# Altium integrated library My_Library.IntLib: 30 symbols
Pins are listed as number, name and electrical type; pins without a type are passive.

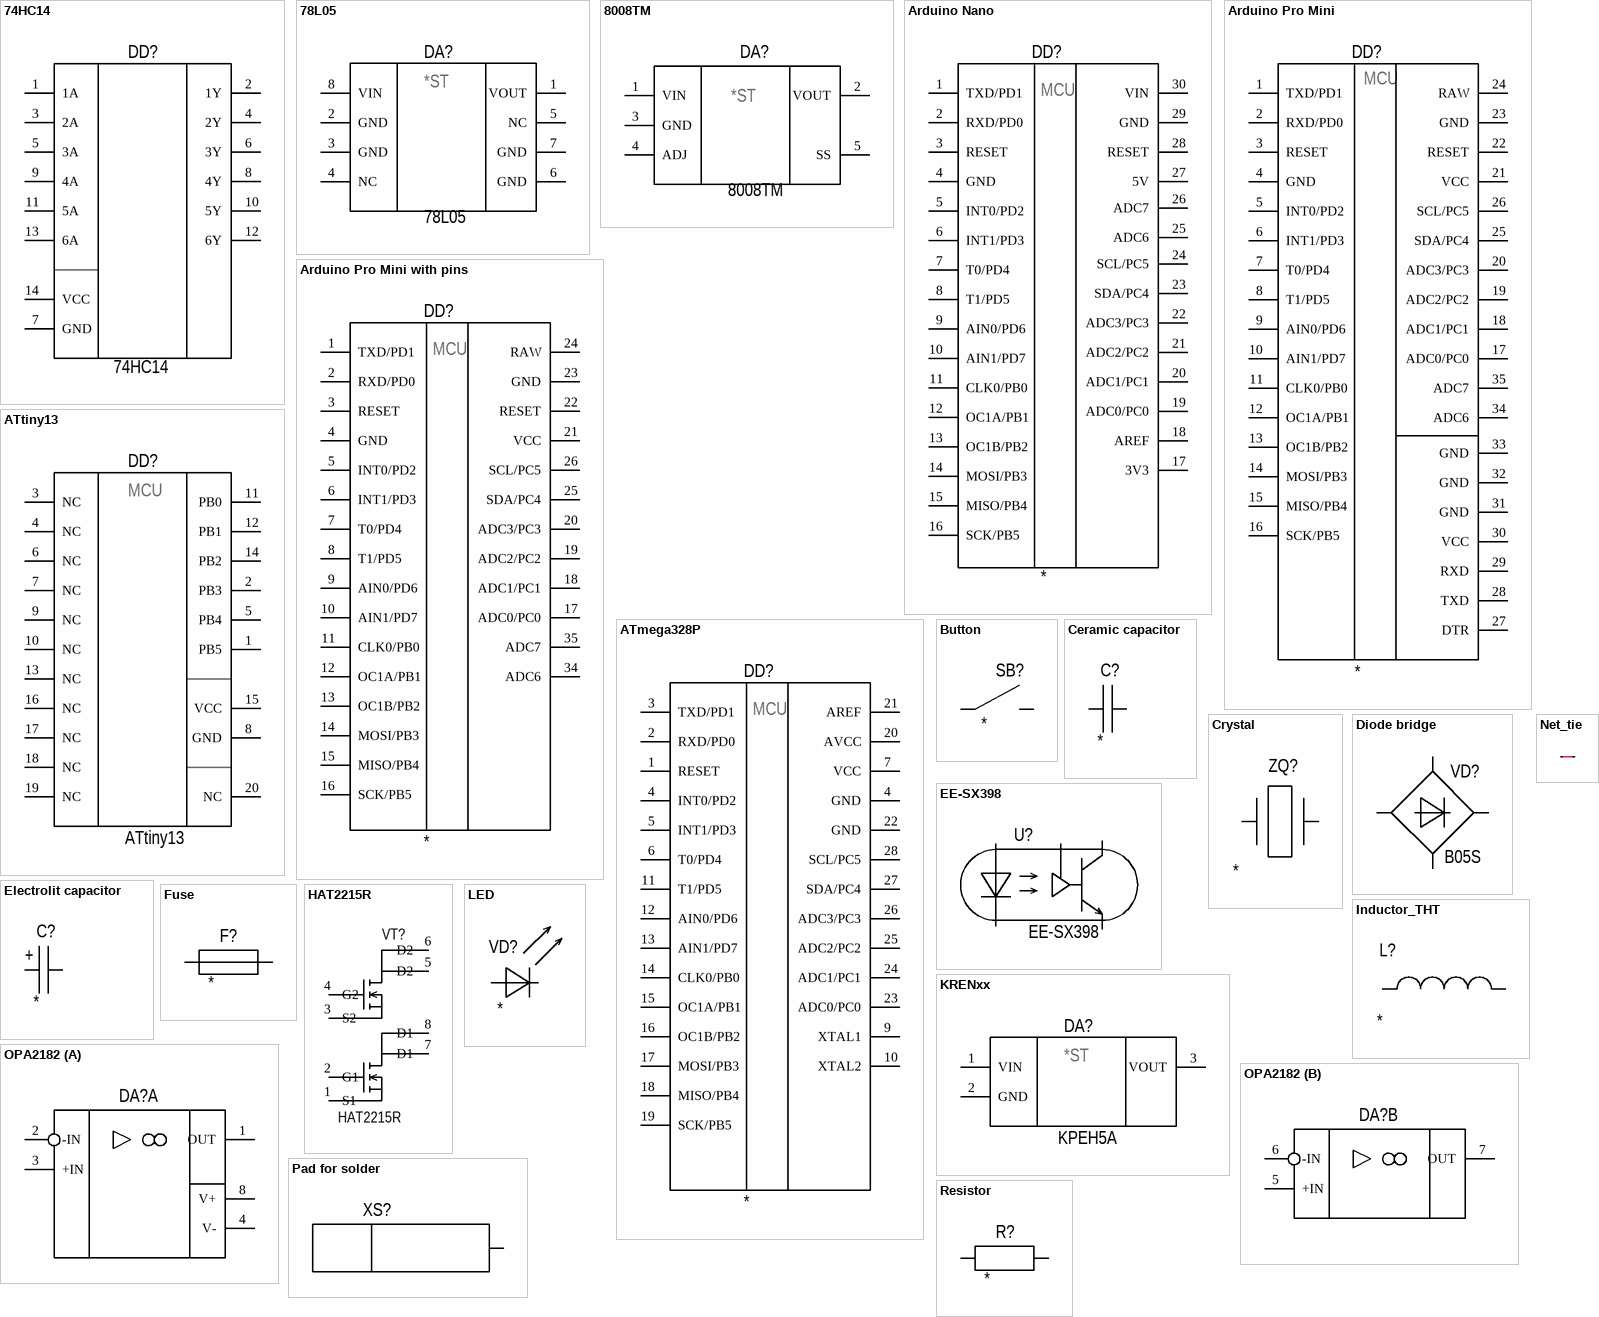
[diagram p0: symbols 74HC14 to Resistor]

## 74HC14
designator DD?
Hex inverting Schmitt trigger; Model: 74HC14; HelpURL: http://radio-hobby.org/uploads/datasheet/78/74hc/74hc14bq.pdf; ComponentKind: DIP-14
pins: 1 1A (power), 2 1Y (power), 3 2A (power), 4 2Y (power), 5 3A (power), 6 3Y (power), 7 GND (power) "Ground", 8 4Y (power), 9 4A (power), 10 5Y (power), 11 5A (power), 12 6Y (power), 13 6A (power), 14 VCC (power)

## 78L05
designator DA?
Voltage regulator; Model: 78L05; Manufacture: *; HelpURL: https://static.chipdip.ru/lib/225/DOC000225710.pdf; ComponentKind: SOIC-8
footprint SOIC-8
pins: 1 VOUT (power), 2 GND (power), 3 GND (power), 4 NC (power), 5 NC (power), 6 GND (power) "Ground", 7 GND (power) "Ground", 8 VIN (power)
text: *ST

## 8008TM
designator DA?
DC-DC; Model: 8008TM; Manufacture: *; HelpURL: *; ComponentKind: TO252-5 (SC-63)
footprint TO252-5
pins: 1 VIN (power), 2 VOUT (power), 3 GND (power), 4 ADJ (power), 5 SS (power) "SoftStart"
text: *ST

## Arduino Nano
designator DD?
MCU; Model: *; Manufacture: *; HelpURL: *; ComponentKind: *
footprint Arduino_Nano
pins: 1 TXD/PD1 (power), 2 RXD/PD0 (power), 3 RESET (power), 4 GND (power), 5 INT0/PD2 (power), 6 INT1/PD3 (power), 7 T0/PD4 (power), 8 T1/PD5 (power), 9 AIN0/PD6 (power), 10 AIN1/PD7 (power), 11 CLK0/PB0 (power), 12 OC1A/PB1 (power) "MISO/AIN1/OC0B/PCINT1", 13 OC1B/PB2 (power), 14 MOSI/PB3 (power) "SCK/ADC1/T0/PCINT2", 15 MISO/PB4 (power) "Power", 16 SCK/PB5 (power) "Power", 17 3V3 (power) "Ground", 18 AREF (power) "Ground", 19 ADC0/PC0 (power) "Power", 20 ADC1/PC1 (power) "Power", 21 ADC2/PC2 (power) "Power", 22 ADC3/PC3 (power) "Power", 23 SDA/PC4 (power) "Ground", 24 SCL/PC5 (power) "Ground", 25 ADC6 (power) "Ground", 26 ADC7 (power) "Ground", 27 5V (power) "Power", 28 RESET (power) "Power", 29 GND (power) "Ground", 30 VIN (power) "Ground"

## Arduino Pro Mini
designator DD?
MCU; Model: *; Manufacture: *; HelpURL: *; ComponentKind: *
footprint ArduinoMiniPro
pins: 1 TXD/PD1 (power), 2 RXD/PD0 (power), 3 RESET (power), 4 GND (power), 5 INT0/PD2 (power), 6 INT1/PD3 (power), 7 T0/PD4 (power), 8 T1/PD5 (power), 9 AIN0/PD6 (power), 10 AIN1/PD7 (power), 11 CLK0/PB0 (power), 12 OC1A/PB1 (power) "MISO/AIN1/OC0B/PCINT1", 13 OC1B/PB2 (power), 14 MOSI/PB3 (power) "SCK/ADC1/T0/PCINT2", 15 MISO/PB4 (power) "Power", 16 SCK/PB5 (power) "Power", 17 ADC0/PC0 (power) "Power", 18 ADC1/PC1 (power) "Power", 19 ADC2/PC2 (power) "Power", 20 ADC3/PC3 (power) "Power", 21 VCC (power) "Power", 22 RESET (power) "Power", 23 GND (power) "Ground", 24 RAW (power) "Ground", 25 SDA/PC4 (power) "Ground", 26 SCL/PC5 (power) "Ground", 27 DTR (power) "Ground", 28 TXD (power) "Ground", 29 RXD (power) "Ground", 30 VCC (power) "Ground", 31 GND (power) "Ground", 32 GND (power) "Ground", 33 GND (power) "Ground", 34 ADC6 (power) "Ground", 35 ADC7 (power) "Ground"

## Arduino Pro Mini with pins
designator DD?
MCU; Model: *; Manufacture: *; HelpURL: *; ComponentKind: *
footprint ArduinoMiniPro_with_pins
pins: 1 TXD/PD1 (power), 2 RXD/PD0 (power), 3 RESET (power), 4 GND (power), 5 INT0/PD2 (power), 6 INT1/PD3 (power), 7 T0/PD4 (power), 8 T1/PD5 (power), 9 AIN0/PD6 (power), 10 AIN1/PD7 (power), 11 CLK0/PB0 (power), 12 OC1A/PB1 (power) "MISO/AIN1/OC0B/PCINT1", 13 OC1B/PB2 (power), 14 MOSI/PB3 (power) "SCK/ADC1/T0/PCINT2", 15 MISO/PB4 (power) "Power", 16 SCK/PB5 (power) "Power", 17 ADC0/PC0 (power) "Power", 18 ADC1/PC1 (power) "Power", 19 ADC2/PC2 (power) "Power", 20 ADC3/PC3 (power) "Power", 21 VCC (power) "Power", 22 RESET (power) "Power", 23 GND (power) "Ground", 24 RAW (power) "Ground", 25 SDA/PC4 (power) "Ground", 26 SCL/PC5 (power) "Ground", 34 ADC6 (power) "Ground", 35 ADC7 (power) "Ground"

## ATmega328P
designator DD?
MCU; Model: *; Manufacture: *; HelpURL: *; ComponentKind: *
pins: 1 RESET (power), 2 RXD/PD0 (power), 3 TXD/PD1 (power), 4 GND (power), 4 INT0/PD2 (power), 5 INT1/PD3 (power), 6 T0/PD4 (power), 7 VCC (power) "Power", 9 XTAL1 (power) "Power", 10 XTAL2 (power) "Power", 11 T1/PD5 (power), 12 AIN0/PD6 (power), 13 AIN1/PD7 (power), 14 CLK0/PB0 (power), 15 OC1A/PB1 (power) "MISO/AIN1/OC0B/PCINT1", 16 OC1B/PB2 (power), 17 MOSI/PB3 (power) "SCK/ADC1/T0/PCINT2", 18 MISO/PB4 (power) "Power", 19 SCK/PB5 (power) "Power", 20 AVCC (power) "Power", 21 AREF (power) "Power", 22 GND (power) "Ground", 23 ADC0/PC0 (power) "Power", 24 ADC1/PC1 (power) "Power", 25 ADC2/PC2 (power) "Power", 26 ADC3/PC3 (power) "Power", 27 SDA/PC4 (power) "Ground", 28 SCL/PC5 (power) "Ground"

## ATtiny13
designator DD?
MCU; Manufacture: Microchip; Model: ATtiny13; HelpURL: https://www.microchip.com/wwwproducts/en/ATTINY13A; ComponentKind: 20-QFN/MLF
footprint 20-QFN/MLF (4x4)
pins: 1 PB5 (power) "PCINT5/RESET/ADC0/dW", 2 PB3 (power) "PCINT3/CLKI/ADC3", 3 NC (power), 4 NC (power), 5 PB4 (power) "PCINT4/ADC2", 6 NC (power), 7 NC (power), 8 GND (power) "Ground", 9 NC (power), 10 NC (power), 11 PB0 (power) "MOSI/AIN0/OC0A/PCINT0", 12 PB1 (power) "MISO/AIN1/OC0B/PCINT1", 13 NC (power), 14 PB2 (power) "SCK/ADC1/T0/PCINT2", 15 VCC (power) "Power", 16 NC (power), 17 NC (power), 18 NC (power), 19 NC (power), 20 NC (power)

## Button
designator SB?
Button; Model: *; Manufacture: *; HelpURL: *; ComponentKind: *
footprint BUTTON_SMD
pins: 1 (power), 2 (power)

## Ceramic capacitor
designator C?
Capacitor; Model: *; Manufacture: *; HelpURL: *; ComponentKind: *; Value: *
footprint C0805
pins: 1 (power), 2 (power)

## Crystal
designator ZQ?
Crystal; Model: *; Manufacture: *; HelpURL: *; ComponentKind: *; Value: *
pins: 1 (power), 2 (power)

## Diode bridge
designator VD?, comment B05S
Diode bridge; Model: B05S; Manufacture: *; HelpURL: https://static.chipdip.ru/lib/117/DOC001117827.pdf; ComponentKind: db-1ms
footprint DB-1MS
pins: 1 ~ (power), 2 ~ (power), 3 + (power), 4 - (power)

## EE-SX398
designator U?
Photomicrosensor; Model: EE-SX398; Manufacture: *; HelpURL: *; ComponentKind: *
footprint OMRON_OPTODETECT
pins: 1 A (power), 2 K (power), 3 GND (power), 4 VCC (power), 5 Out (power)

## Electrolit capacitor
designator C?
Capacitor; Model: *; Manufacture: *; HelpURL: *; ComponentKind: *; Value: *
footprint SMD_CAP_5x5.4
footprint SMD_CAP_6.3x5.4
footprint SMD_CAP_8x10.5
pins: 1 (power), 2 (power)
text: +

## Fuse
designator F?
Fuse; Model: *; Manufacture: *; HelpURL: *; ComponentKind: *; Value: *
footprint Fuse_holder
pins: 1 (power), 2 (power)

## HAT2215R
designator VT?
2x N-ch MOSFET; ComponentKind: *; Model: *; Value: HAT2215R; HelpURL: http://radio-hobby.org/uploads/datasheet/109/hat2/hat2215r.pdf; Manufacture: *
footprint SOIC-8
pins: 1 S1, 2 G1, 3 S2, 4 G2, 5 D2, 6 D2, 7 D1, 8 D1

## Inductor_THT
designator L?
Inductor Through Hole; Model: *; Manufacture: *; HelpURL: *; ComponentKind: *; Value: *
footprint IND_7D5
pins: 1 (power), 2 (power)

## KRENxx
designator DA?, comment KPEH5A
Voltage regulator; Model: KPEH5A; Manufacture: *; HelpURL: *; ComponentKind: TO-220
footprint to220
pins: 1 VIN (power), 2 GND (power), 3 VOUT (power)
text: *ST

## LED
designator VD?
LED; Model: *; Manufacture: *; HelpURL: *; ComponentKind: *
footprint LED1206
footprint LED2835 (SMD LED)
pins: 1 A (power), 2 C (power)

## Net_tie
designator W?  (value not drawn)  (net tie, no BOM)
footprint Net_tie_03mm
pins: 1, 2

## OPA2182
designator DA?
2-channel opamp; Manufacture: *; ComponentKind: SOIC-8
footprint SOIC-8
part A pins: 1 OUT (power), 2 -IN (power), 3 +IN (power), 4 V- (power) "Ground", 8 V+ (power) "Ground"
part B pins: 5 +IN (power), 6 -IN (power), 7 OUT (power)

## Pad for solder
designator XS?  (value not drawn)
ComponentKind: *; HelpURL: *; Manufacture: *; Model: *
footprint SolderPad
pins: 1 0

## Resistor
designator R?
SMD Resistor; Model: *; Manufacture: *; HelpURL: *; ComponentKind: *; Value: *
footprint R0805
footprint R2512
footprint R_multilayer
pins: 1 (power), 2 (power)

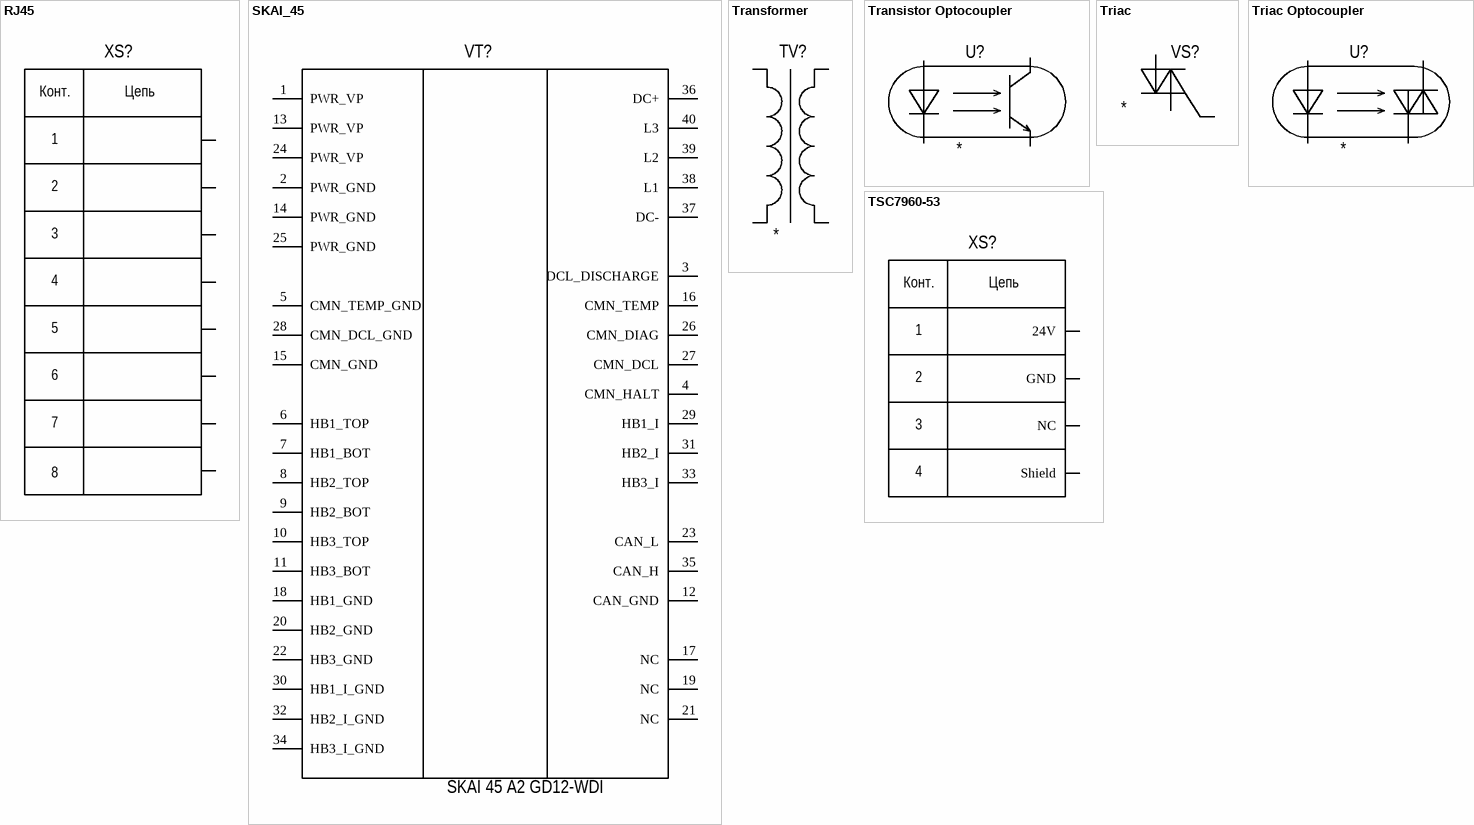
[diagram p1: symbols RJ45 to TSC7960-53]

## RJ45
designator XS?, comment RJ-45  (value not drawn)
Connector; ComponentKind: *; HelpURL: *; Manufacture: *; Model: RJ-45
footprint RJ45 (Connector)
pins: 1, 2, 3, 4, 5, 6, 7, 8
text: Конт.; Цепь

## SKAI_45
designator VT?, comment SKAI 45 A2 GD12-WDI
IGBT inverter; Model: SKAI 45 A2 GD12-WDI
pins: 1 PWR_VP (power), 2 PWR_GND (power), 3 DCL_DISCHARGE (power), 4 CMN_HALT (power), 5 CMN_TEMP_GND (power), 6 HB1_TOP (power), 7 HB1_BOT (power), 8 HB2_TOP (power), 9 HB2_BOT (power), 10 HB3_TOP (power), 11 HB3_BOT (power), 12 CAN_GND (power), 13 PWR_VP (power), 14 PWR_GND (power), 15 CMN_GND (power), 16 CMN_TEMP (power), 17 NC (power), 18 HB1_GND (power), 19 NC (power), 20 HB2_GND (power), 21 NC (power), 22 HB3_GND (power), 23 CAN_L (power), 24 PWR_VP (power), 25 PWR_GND (power), 26 CMN_DIAG (power), 27 CMN_DCL (power), 28 CMN_DCL_GND (power), 29 HB1_I (power), 30 HB1_I_GND (power), 31 HB2_I (power), 32 HB2_I_GND (power), 33 HB3_I (power), 34 HB3_I_GND (power), 35 CAN_H (power), 36 DC+ (power), 37 DC- (power), 38 L1 (power), 39 L2 (power), 40 L3 (power)

## Transformer
designator TV?
ТП-122; Model: *; Manufacture: *; HelpURL: *; ComponentKind: *
footprint TP-122
pins: 1 (power), 4 1 (power), 9 2 (power), 10 (power)

## Transistor Optocoupler
designator U?
Transistor Optocoupler; Model: *; Manufacture: *; HelpURL: *; ComponentKind: *
footprint PDIP-4
pins: 1 A (power), 2 C (power), 3 E (power), 4 Col (power)

## Triac
designator VS?
Triac; Model: *; Manufacture: *; HelpURL: *; ComponentKind: *
footprint D2PAK
pins: 1 T1 (power), 2 T2 (power), 3 G (power)

## Triac Optocoupler
designator U?
Triac Optocoupler; Model: *; Manufacture: *; HelpURL: *; ComponentKind: *
footprint SMT-6
pins: 1 A (power), 2 C (power), 4 T1 (power), 6 T2 (power)

## TSC7960-53
designator XS?  (value not drawn)
Power connector; ComponentKind: *; HelpURL: *; Manufacture: *; Model: TSC7960-53
footprint TSC7960-53 (Connector)
pins: 1 24V, 2 GND, 3 NC, 4 Shield
text: Конт.; Цепь